# Altium footprint library 84981-4.PcbLib: 1 footprints
Each footprint in its own frame and in the unit in brackets; x right, y up, seen from the top. Pads: shape width x height; smd on the part's side, far side on the other; paste and mask are expansions set on the pad; w line width, h text height; cw(c..) or ccw(c..) is an arc to the next point about the centre after c.
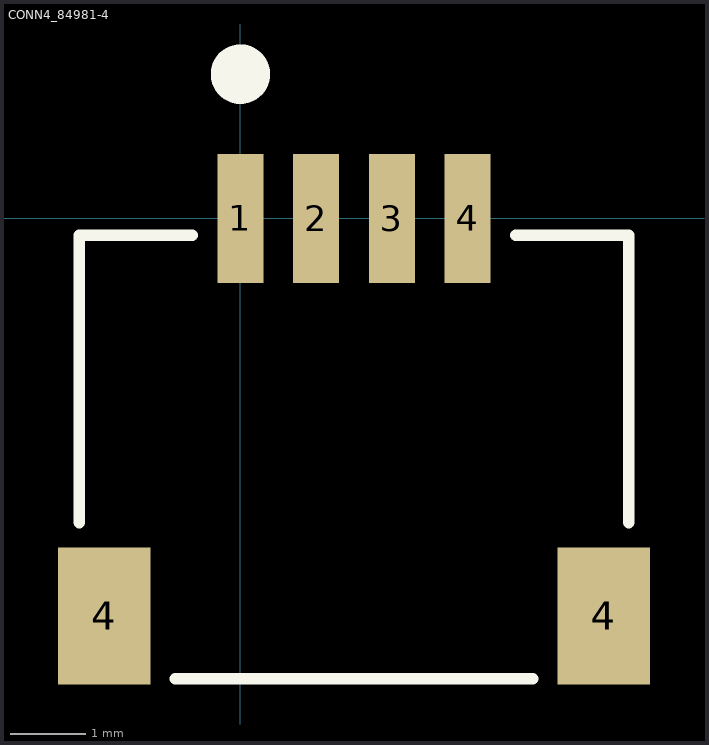
[diagram p0: the footprint, top view; thin cyan lines are the x and y axes]

## CONN4_84981-4 [mil]
pads (6):
  rect 24x67 smd paste+0 mask+0: 1(0,0) 2(39.37,0) 3(78.74,0) 4(118.11,0)
  rect 48x71 smd: 4(-70.87,-206.69) 4(188.98,-206.69)
Top Overlay:
  circle w20: c0,75 r5.43
  lines w6: -83.74,-158.09 -83.74,-8.78 -25.1,-8.78 ; -33.77,-239.25 151.88,-239.25 ; 143.21,-8.78 201.85,-8.78 201.85,-158.09
3D body "c-84981-4-j-3d.stp": height 118.61, standoff -1.46, extent -78.74,-228.35 196.85,19.68
3D body: height 10, standoff 0, extent 0,0 10,10